# Altium integrated library ShroudedBoxHeader2x4.IntLib: 1 symbol
Pins are listed as number, name and electrical type; pins without a type are passive.

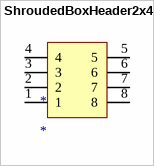
[diagram p0: symbol ShroudedBoxHeader2x4]

## ShroudedBoxHeader2x4
designator *
footprint ShroudedBoxHeader2x4
pins: 1, 2, 3, 4, 5, 6, 7, 8